# Altium footprint library diodes-inc-packages.PcbLib: 29 footprints (part 1 of 2)
Each footprint in its own frame and in the unit in brackets; x right, y up, seen from the top. Pads: shape width x height; smd on the part's side, far side on the other; paste and mask are expansions set on the pad; w line width, h text height; cw(c..) or ccw(c..) is an arc to the next point about the centre after c.
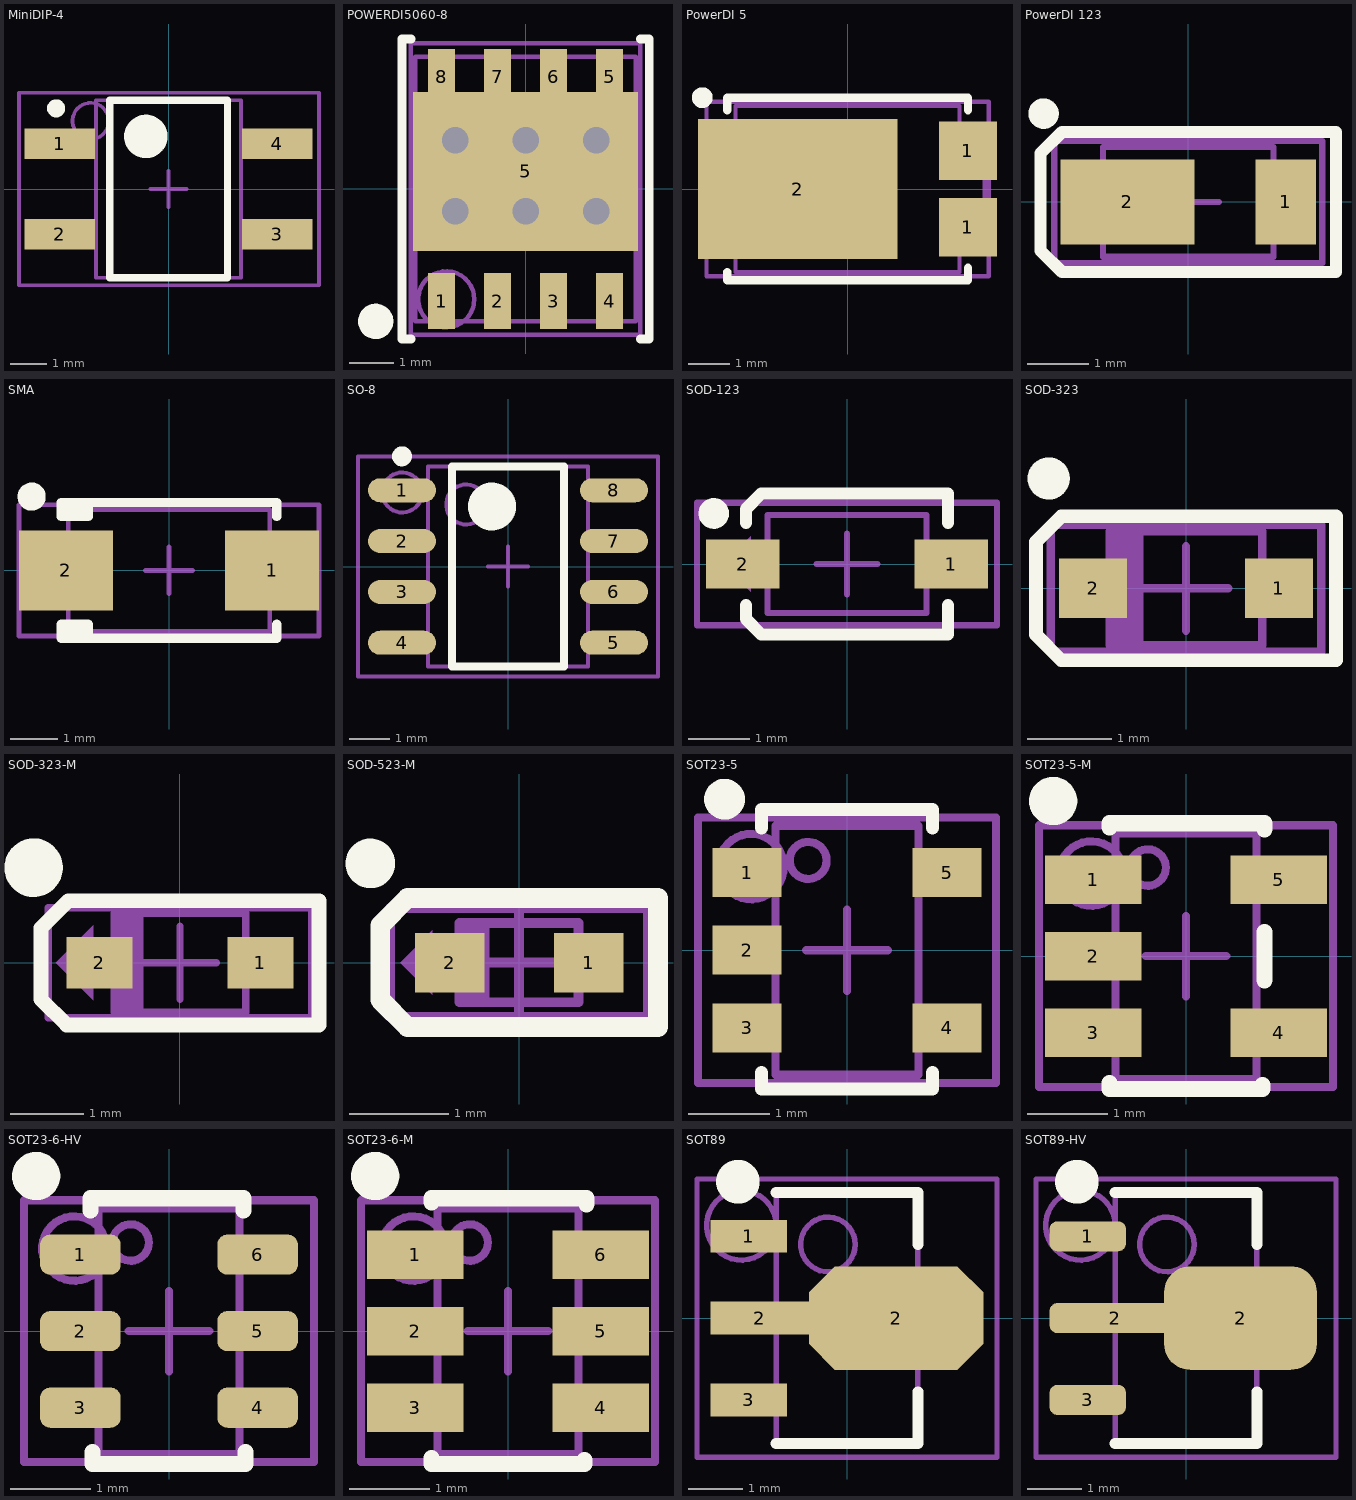
[diagram p0: the footprints below, top view; thin cyan lines are the x and y axes]

## MiniDIP-4 [mm] "SOIC, 4-Leads, Body 4.9x4.0mm (max), Pitch 1.27mm, IPC Medium Density"
height 2.9
pads (4):
  rect 1.95x0.85 smd: 1(-3,1.25) 2(-3,-1.25) 3(3,-1.25) 4(3,1.25)
Top Overlay:
  circle w0.25: c-3.1,2.225 r0.125
  circle w0.6: c-0.625,1.45 r0.3
  lines w0.2: -1.625,-2.45 -1.625,2.45 1.625,2.45 1.625,-2.45 -1.625,-2.45
Mechanical 13:
  lines w0.1: -0.5,0 0.5,0 ; 0,-0.5 0,0.5 ; -2,-2.45 -2,2.45 2,2.45 2,-2.45 -2,-2.45
Mechanical 15:
  circle w0.1: c-2.15,1.875 r0.5
  lines w0.1: -4.125,-2.65 -4.125,2.65 4.15,2.65 4.15,-2.65 -4.125,-2.65
  text ".Designator" at 0.2,-2.125 h0.5
3D body "User Library-Bridge SMD TO-269AA.step": height 2.93, standoff 0.02, extent -3.52,-2.475 3.52,2.475

## POWERDI5060-8 [mm] "8-Leads, Body 5.0x6.0mm (max), Pitch 1.27mm, IPC Medium Density"
height 0.95
pads (9):
  rect 0.61x1.27 smd: 1(-1.905,-2.54) 2(-0.635,-2.54) 3(0.635,-2.54) 4(1.905,-2.54) 5(1.905,2.54) 6(0.635,2.54) 7(-0.635,2.54) 8(-1.905,2.54)
  rect 5.1x3.6 smd: 5(0,0.4)
via 1.6,-0.5 diameter 1 hole 0.6
via 1.6,1.1 diameter 1 hole 0.6
via 0,1.1 diameter 1 hole 0.6
via 0,-0.5 diameter 1 hole 0.6
via -1.6,-0.5 diameter 1 hole 0.6
via -1.6,1.1 diameter 1 hole 0.6
Top Overlay:
  circle w0.4: c-3.4,-3 r0.2
  lines w0.2: -2.6,-3.4 -2.8,-3.4 -2.8,3.4 -2.6,3.4 ; 2.6,-3.4 2.8,-3.4 2.8,3.4 2.6,3.4
Mechanical 13:
  lines w0.1: -0.5,0 0.5,0 ; 0,-0.5 0,0.5 ; -2.5,-3 2.5,-3 2.5,3 -2.5,3 -2.5,-3
Mechanical 15:
  circle w0.1: c-1.8,-2.5 r0.636
  lines w0.1: -2.6,-3.3 2.6,-3.3 2.6,3.3 -2.6,3.3 -2.6,-3.3
  text ".Designator" at -2.54,0 h0.5
3D body "User Library-Power 56.step": height 1, standoff 0, extent -2.5,-3.001 2.5,3.001

## PowerDI 5 [mm] "Molded Diode, 2-Leads"
height 1.15
pads (3):
  rect 1.4x1.4 smd: 1(2.9,-0.92) 1(2.9,0.92)
  rect 4.8x3.36 smd: 2(-1.2,0)
Top Overlay:
  circle w0.25: c-3.5,2.2 r0.125
  lines w0.2: -2.9,-2 -2.9,-2.2 2.9,-2.2 2.9,-1.9 ; -2.9,1.9 -2.9,2.2 2.9,2.2 2.9,1.9
Mechanical 13:
  lines w0.1: -0.5,0 0.5,0 ; 0,-0.5 0,0.5 ; -3.3,-0.9 -2.7,-0.9 -2.7,-2 2.7,-2 2.7,-1.4 3.3,-1.4 3.3,1.4 2.7,1.4 2.7,2 -2.7,2 -2.7,0.9 -3.3,0.9 -3.3,-0.9
Mechanical 15:
  region: -2.438,-0.688 -3.163,0.037 -2.437,0.763
  lines w0.1: -3.4,-2.1 3.4,-2.1 3.4,2.1 -3.4,2.1 -3.4,-2.1
  text ".Designator" at -0.875,-0.175 h0.5
3D body "User Library-PowerDI-5.STEP": height 1.16, standoff 0.01, extent -3.3,-2.025 3.3,2.025

## PowerDI 123 [mm] "Molded Diode, 2-Leads"
height 0.98
pads (2):
  rect 1x1.4 smd: 1(1.6,0)
  rect 2.2x1.4 smd: 2(-1,0)
Top Overlay:
  circle w0.25: c-2.375,1.45 r0.125
  lines w0.2: -2.425,-0.8 -2.425,0.8 -2.075,1.15 2.425,1.15 2.425,-1.15 -2.075,-1.15 -2.425,-0.8
Mechanical 13:
  lines w0.1: -0.5,0 0.5,0 ; 0,-0.5 0,0.5 ; -1.4,-0.9 -1.4,0.9 1.4,0.9 1.4,-0.9 -1.4,-0.9
Mechanical 15:
  region: -1.575,-0.45 -2.025,0 -1.575,0.45
  lines w0.1: -2.2,-1 -2.2,1 2.2,1 2.2,-1 -2.2,-1
  text ".Designator" at -0.875,-0.175 h0.5
3D body "User Library-POWERDI-123.STEP": height 1.02, standoff 0.02, extent -1.95,-0.965 1.95,0.965

## SMA [mm] "Molded Diode, 2-Leads, Body 4.3x2.6mm, IPC Medium Density"
height 2.15
pads (2):
  rect 2x1.7 smd: 1(2.2,0) 2(-2.2,0)
Top Overlay:
  circle w0.3: c-2.93,1.575 r0.15
  rectangle: -2.3,-1.45 -1.71,-1.125
  rectangle: -2.3,1.125 -1.725,1.45
  lines w0.2: -1.725,-1.45 -1.725,-1.15 -2.3,-1.15 -2.3,-1.45 2.3,-1.45 2.3,-1.15 ; -1.725,1.45 -1.725,1.15 -2.3,1.15 -2.3,1.45 2.3,1.45 2.3,1.15
Mechanical 13:
  lines w0.1: -0.5,0 0.5,0 ; 0,-0.5 0,0.5 ; -2.15,-1.3 -2.15,1.3 2.15,1.3 2.15,-1.3 -2.15,-1.3
Mechanical 15:
  region: -2.3,-0.6 -2.9,0 -2.3,0.6
  lines w0.1: -3.2,-1.4 -3.2,1.4 3.2,1.4 3.2,-1.4 -3.2,-1.4
  text ".Designator" at -0.875,-0.175 h0.5
3D body "DO-214AC.step": height 2.4, standoff 0, extent -2.6,-1.3 2.6,1.3

## SO-8 [mm] "SOIC, 8-Leads, Body 5.0x4.0mm (max), Pitch 1.27mm, IPC Medium Density"
height 1.75
pads (8):
  oval 1.7x0.6 smd: 1(-2.65,1.905) 2(-2.65,0.635) 3(-2.65,-0.635) 4(-2.65,-1.905) 5(2.65,-1.905) 6(2.65,-0.635) 7(2.65,0.635) 8(2.65,1.905)
Top Overlay:
  circle w0.25: c-2.65,2.755 r0.125
  circle w0.6: c-0.4,1.5 r0.3
  lines w0.2: -1.4,-2.5 1.4,-2.5 1.4,2.5 -1.4,2.5 -1.4,-2.5
Mechanical 13:
  circle w0.1: c-1.045,1.55 r0.5
  lines w0.1: -0.5,0 0.5,0 ; 0,-0.5 0,0.5 ; -1.995,-2.5 -1.995,2.5 1.995,2.5 1.995,-2.5 -1.995,-2.5
Mechanical 15:
  circle w0.1: c-2.645,1.85 r0.5
  lines w0.1: -3.75,-2.75 -3.75,2.75 3.75,2.75 3.75,-2.75 -3.75,-2.75
  text ".Designator" at -0.1,2.375 h0.5
3D body "User Library-SOIC08-150.step": height 1.75, standoff 0, extent -2.9,-2.4 2.9,2.4

## SOD-123 [mm] "Molded Diode, 2-Leads"
height 1.2
pads (2):
  rect 1.2x0.8 smd: 1(1.7,0) 2(-1.7,0)
Top Overlay:
  circle w0.25: c-2.175,0.825 r0.125
  lines w0.2: -1.65,-0.675 -1.65,-0.9 -1.4,-1.15 1.65,-1.15 1.65,-0.675 ; -1.65,0.675 -1.65,0.9 -1.4,1.15 1.65,1.15 1.65,0.675
Mechanical 13:
  lines w0.1: -0.5,0 0.5,0 ; 0,-0.5 0,0.5 ; -1.3,-0.8 -1.3,0.8 1.3,0.8 1.3,-0.8 -1.3,-0.8
Mechanical 15:
  region: -1.575,-0.45 -2.025,0 -1.575,0.45
  lines w0.1: -2.45,-1 -2.45,1 2.45,1 2.45,-1 -2.45,-1
  text ".Designator" at -0.875,-0.175 h0.5
3D body "User Library-SOD-123_DiodesInc.step": height 1.44, standoff -0.01, extent -1.925,-0.85 1.925,0.85

## SOD-323 [mm] "Molded Diode, 2-Leads"
height 0.7
pads (2):
  rect 0.8x0.7 smd: 1(1.1,0) 2(-1.1,0)
Top Overlay:
  circle w0.25: c-1.625,1.3 r0.125
  lines w0.16: -1.775,-0.55 -1.475,-0.85 1.775,-0.85 1.775,0.85 -1.475,0.85 -1.775,0.55 -1.775,-0.55
Mechanical 13:
  rectangle: -0.9,-0.675 -0.5,0.65
  lines w0.1: -0.5,0 0.5,0 ; 0,-0.5 0,0.5 ; -0.9,-0.675 0.9,-0.675 0.9,0.675 -0.9,0.675 -0.9,-0.675
Mechanical 15:
  region: -1.125,-0.325 -1.45,0 -1.125,0.325
  lines w0.1: -1.6,-0.75 1.6,-0.75 1.6,0.75 -1.6,0.75 -1.6,-0.75
  text ".Designator" at -0.875,-0.175 h0.5
3D body "User Library-SOD-323.step": height 1.1, standoff 0, extent -1.3,-0.675 1.3,0.675

## SOD-323-M [mm] "Molded Diode, 2-Leads, Medium Density"
height 0.7
pads (2):
  rect 0.9x0.7 smd: 1(1.1,0) 2(-1.1,0)
Top Overlay:
  circle w0.4: c-2,1.3 r0.2
  lines w0.2: -1.9,-0.5 -1.9,0.475 -1.525,0.85 1.9,0.85 1.9,-0.85 -1.55,-0.85 -1.9,-0.5
Mechanical 13:
  rectangle: -0.9,-0.675 -0.5,0.65
  lines w0.1: -0.5,0 0.5,0 ; 0,-0.5 0,0.5 ; -0.9,-0.675 -0.9,0.675 0.9,0.675 0.9,-0.675 -0.9,-0.675
Mechanical 15:
  region: -1.188,-0.512 -1.7,0 -1.187,0.513
  lines w0.1: -1.8,-0.75 -1.8,0.75 1.8,0.75 1.8,-0.75 -1.8,-0.75
  text ".Designator" at -1,-0.5 h0.9
3D body "User Library-SOD-323.step": height 1.1, standoff 0, extent -1.3,-0.675 1.3,0.675

## SOD-523-M [mm] "Molded Diode, 2-Leads"
height 0.6
pads (2):
  rect 0.7x0.6 smd: 1(0.7,0) 2(-0.7,0)
Top Overlay:
  circle w0.25: c-1.5,1 r0.125
  lines w0.2: -1.4,-0.375 -1.125,-0.65 1.4,-0.65 1.4,0.65 -1.125,0.65 -1.4,0.375 -1.4,-0.375
Mechanical 13:
  rectangle: -0.6,-0.4 -0.3,0.4
  lines w0.1: -0.5,0 0.5,0 ; 0,-0.5 0,0.5 ; -0.6,-0.4 0.6,-0.4 0.6,0.4 -0.6,0.4 -0.6,-0.4
Mechanical 15:
  region: -0.875,-0.325 -1.2,0 -0.875,0.325
  lines w0.1: -1.3,-0.55 1.3,-0.55 1.3,0.55 -1.3,0.55 -1.3,-0.55
  text ".Designator" at -0.8,-0.2 h0.5
3D body "User Library-SOD-523F.STEP": height 0.7, standoff 0, extent -0.8,-0.399 0.8,0.399

## SOT23-5 [mm] "SOT23, 5-Leads, Body 3.0x3.0mm (max), Pitch 0.95mm, IPC High Density"
height 1.45
pads (5):
  rect 0.85x0.6 smd: 1(-1.225,0.95) 2(-1.225,0) 3(-1.225,-0.95) 4(1.225,-0.95) 5(1.225,0.95)
Top Overlay:
  circle w0.25: c-1.5,1.85 r0.125
  lines w0.16: -1.05,-1.5 -1.05,-1.7 1.05,-1.7 1.05,-1.5 ; -1.05,1.5 -1.05,1.725 1.05,1.725 1.05,1.5
Mechanical 13:
  circle w0.1: c-0.476,1.1 r0.226
  lines w0.1: -0.5,0 0.5,0 ; 0,-0.5 0,0.5 ; -0.875,-1.525 0.875,-1.525 0.875,1.525 -0.875,1.525 -0.875,-1.525
Mechanical 15:
  circle w0.1: c-1.175,1.025 r0.4
  lines w0.1: -1.825,-1.625 1.825,-1.625 1.825,1.625 -1.825,1.625 -1.825,-1.625
  text ".Designator" at 0.225,-1.3 h0.5
3D body "SW3DPS-SOT-23-5-DEFAULT.STEP": height 1.09, standoff -0.01, extent -1.25,-1.5 1.25,1.5

## SOT23-5-M [mm] "SOT23, 5-Leads, Body 3.0x3.0mm (max), Pitch 0.95mm, IPC Medium Density"
height 1.45
pads (5):
  rect 1.2x0.6 smd: 1(-1.15,0.95) 2(-1.15,0) 3(-1.15,-0.95) 4(1.15,-0.95) 5(1.15,0.95)
Top Overlay:
  circle w0.3: c-1.65,1.925 r0.15
  lines w0.2: -0.95,-1.575 -0.95,-1.65 0.95,-1.65 0.95,-1.6 ; -0.95,1.6 -0.95,1.65 0.975,1.65 0.975,1.575 ; 0.975,-0.3 0.975,0.3
Mechanical 13:
  circle w0.1: c-0.476,1.1 r0.226
  lines w0.1: -0.5,0 0.5,0 ; 0,-0.5 0,0.5 ; -0.875,-1.525 -0.875,1.525 0.875,1.525 0.875,-1.525 -0.875,-1.525
Mechanical 15:
  circle w0.1: c-1.175,1.025 r0.4
  lines w0.1: -1.825,-1.625 -1.825,1.625 1.825,1.625 1.825,-1.625 -1.825,-1.625
  text ".Designator" at -0.25,1.125 h0.5
3D body "SW3DPS-SOT-23-5-DEFAULT.STEP": height 1.09, standoff -0.01, extent -1.25,-1.5 1.25,1.5

## SOT23-6-HV [mm] "SOT23, 6-Leads, Body 3.0x3.0mm (max), Pitch 0.95mm, IPC High Voltage"
height 1.45
pads (6):
  rrect50% 1x0.5 smd: 1(-1.1,0.95) 2(-1.1,0) 3(-1.1,-0.95) 4(1.1,-0.95) 5(1.1,0) 6(1.1,0.95)
Top Overlay:
  circle w0.3: c-1.65,1.925 r0.15
  lines w0.2: -0.975,1.5 -0.975,1.65 0.925,1.65 0.925,1.5 ; -0.95,-1.5 -0.95,-1.65 0.95,-1.65 0.95,-1.5
Mechanical 13:
  circle w0.1: c-0.476,1.1 r0.226
  lines w0.1: -0.9,1.525 0.85,1.525 ; -0.5,0 0.5,0 ; 0,-0.5 0,0.5 ; -0.875,-1.525 0.875,-1.525 0.875,1.525 -0.875,1.525 -0.875,-1.525
Mechanical 15:
  circle w0.1: c-1.175,1.025 r0.4
  lines w0.1: -1.8,-1.625 1.8,-1.625 1.8,1.625 -1.8,1.625 -1.8,-1.625
  text ".Designator" at -0.25,1.125 h0.5
3D body "User Library-sot236.step": height 1, standoff 0, extent -1.17,-1.46 1.17,1.46

## SOT23-6-M [mm] "SOT23, 6-Leads, Body 3.0x3.0mm (max), Pitch 0.95mm, IPC Medium Density"
height 1.45
pads (6):
  rect 1.2x0.6 smd: 1(-1.15,0.95) 2(-1.15,0) 3(-1.15,-0.95) 4(1.15,-0.95) 5(1.15,0) 6(1.15,0.95)
Top Overlay:
  circle w0.3: c-1.65,1.925 r0.15
  lines w0.2: -0.95,-1.575 -0.95,-1.65 0.95,-1.65 0.95,-1.6 ; -0.95,1.6 -0.95,1.65 0.975,1.65 0.975,1.575
Mechanical 13:
  circle w0.1: c-0.476,1.1 r0.226
  lines w0.1: -0.5,0 0.5,0 ; 0,-0.5 0,0.5 ; -0.875,-1.525 0.875,-1.525 0.875,1.525 -0.875,1.525 -0.875,-1.525
Mechanical 15:
  circle w0.1: c-1.175,1.025 r0.4
  lines w0.1: -1.825,-1.625 1.825,-1.625 1.825,1.625 -1.825,1.625 -1.825,-1.625
  text ".Designator" at -0.25,1.125 h0.5
3D body "User Library-sot236.step": height 1, standoff 0, extent -1.17,-1.46 1.17,1.46

## SOT89 [mm] "SOT89, 3-Leads, Body 4.5x2.5mm (max), Pitch 1.50mm, Lead Span 4.0mm, IPC Medium Density"
height 1.6
pads (4):
  rect 1.4x0.6 smd: 1(-1.8,1.5) 3(-1.8,-1.5)
  rect 1.8x0.6 smd: 2(-1.6,0)
  oct 3.2x1.9 smd: 2(0.9,0)
Top Overlay:
  circle w0.4: c-2,2.5 r0.2
  lines w0.2: -1.3,-2.3 1.3,-2.3 1.3,-1.35 ; -1.3,2.3 1.3,2.3 1.3,1.35
Mechanical 13:
  circle w0.1: c-0.35,1.35 r0.5
  lines w0.1: -0.5,0 0.5,0 ; 0,-0.5 0,0.5 ; -1.3,-2.3 -1.3,2.3 1.3,2.3 1.3,-2.3 -1.3,-2.3
Mechanical 15:
  circle w0.1: c-1.936,1.7 r0.636
  lines w0.1: -2.75,-2.55 -2.75,2.55 2.75,2.55 2.75,-2.55 -2.75,-2.55
  text ".Designator" at -0.2,1.5 h0.5
3D body "User Library-SOT89-3.STEP": height 1.54, standoff 0, extent -2.25,-2.25 2,2.25

## SOT89-HV [mm] "SOT89, 3-Leads, Body 4.5x2.5mm (max), Pitch 1.50mm, Lead Span 4.0mm, IPC Medium Density"
height 1.6
pads (4):
  rrect50% 1.4x0.55 smd: 1(-1.8,1.5) 3(-1.8,-1.5)
  rrect50% 2.4x0.55 smd: 2(-1.3,0)
  rrect50% 2.8x1.9 smd: 2(1,0)
Top Overlay:
  circle w0.4: c-2,2.5 r0.2
  lines w0.2: -1.3,-2.3 1.3,-2.3 1.3,-1.35 ; -1.3,2.3 1.3,2.3 1.3,1.35
Mechanical 13:
  circle w0.1: c-0.35,1.35 r0.5
  lines w0.1: -0.5,0 0.5,0 ; 0,-0.5 0,0.5 ; -1.3,-2.3 -1.3,2.3 1.3,2.3 1.3,-2.3 -1.3,-2.3
Mechanical 15:
  circle w0.1: c-1.936,1.7 r0.636
  lines w0.1: -2.75,-2.55 -2.75,2.55 2.75,2.55 2.75,-2.55 -2.75,-2.55
  text ".Designator" at -0.2,1.5 h0.5
3D body "User Library-SOT89-3.STEP": height 1.54, standoff 0, extent -2.25,-2.25 2,2.25